# Altium footprint library PcbLib1.PcbLib: 9 footprints
Each footprint in its own frame and in the unit in brackets; x right, y up, seen from the top. Pads: shape width x height; smd on the part's side, far side on the other; paste and mask are expansions set on the pad; w line width, h text height; cw(c..) or ccw(c..) is an arc to the next point about the centre after c.
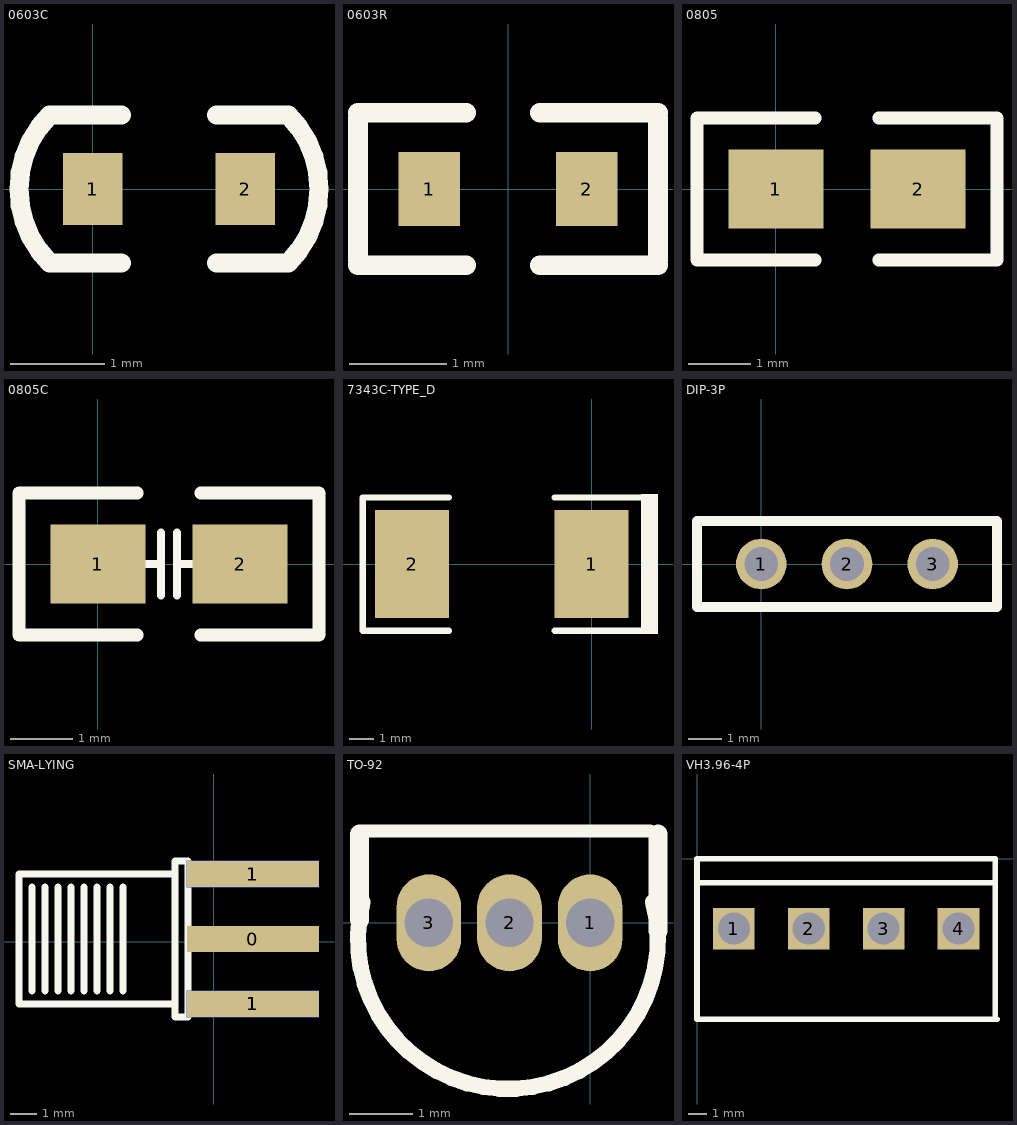
[diagram p0: the footprints below, top view; thin cyan lines are the x and y axes]

## 0603C [mil]
pads (2):
  rect 25x30 smd: 1(0,0) 2(64,0)
Top Overlay:
  lines w8: 12,-31 -18,-31 cw(c13,0) -18,31 12,31 ; 52,-31 82,-31 ccw(c51,0) 82,31 52,31

## 0603R [mil]
pads (2):
  rect 25x30 smd: 1(-32,0) 2(32,0)
Top Overlay:
  lines w8: -61,-31 -17,-31 ; -61,-29 -61,29 ; -61,31 -17,31 ; 13,-31 61,-31 ; 13,31 61,31 ; 61,-29 61,29

## 0805 [mil]
pads (2):
  rect 60x50 smd: 1(0,0) 2(90,0)
Top Overlay:
  lines w8: 25,-45 -50,-45 -50,45 25,45 ; 65,-45 140,-45 140,45 65,45

## 0805C [mil]
pads (2):
  rect 60x50 smd: 1(0,0) 2(90,0)
Top Overlay:
  lines w5: 30,0 40,0 ; 40,-20 40,20 ; 50,-20 50,20 ; 50,0 60,0
  lines w8: 25,-45 -50,-45 -50,45 25,45 ; 65,-45 140,-45 140,45 65,45

## 7343C-TYPE_D [mm]
pads (2):
  rect 3x4.4 smd: 1(0,0) 2(-7.3,0)
Top Overlay:
  rectangle: 2.008,-2.835 2.7,2.845
  lines w0.254: -5.8,-2.708 -9.308,-2.708 -9.308,2.708 -5.8,2.708 ; -1.5,-2.708 2.008,-2.708 ; -1.5,2.708 2.008,2.708

## DIP-3P [mm]
pads (3):
  round 1.5 hole 1: 1(0,0) 2(2.54,0) 3(5.08,0)
Top Overlay:
  lines w0.3: -1.905,-1.27 6.985,-1.27 6.985,1.27 -1.905,1.27 -1.905,0 -1.905,-1.27

## SMA-LYING [mm]
height 8.2
pads (5):
  rect 5.08x1.016 smd: 0(1.5,0.1) 1(1.5,-2.4) 1(1.5,2.6)
  rect 5.08x1.016 smd far side: 1(1.5,-2.4) 1(1.5,2.6)
Top Overlay:
  lines w0.254: -7,-1.9 -7,2.1 ; -6.5,-1.9 -6.5,2.1 ; -6,-1.9 -6,2.1 ; -5.5,-1.9 -5.5,2.1 ; -5,-1.9 -5,2.1 ; -4.5,-1.9 -4.5,2.1 ; -4,-1.9 -4,-1.4 -4,2.1 ; -3.5,-1.9 -3.5,2.1 ; -1.5,-2.4 -7.5,-2.4 -7.5,2.6 -1.5,2.6 ; -1.5,-2.9 -1,-2.9 -1,-2.4 -1,3.1 -1.5,3.1 -1.5,-2.9

## TO-92 [mil]
pads (3):
  oval 40x60 hole 30: 1(0,0) 2(-50,0) 3(-100,0)
Top Overlay:
  lines w8: -143,57 37,57
  lines w10: -141,13 ccw(c-51,-10) 39,13
  lines w12: -143,2 -143,55 ; 42,-5 42,55

## VH3.96-4P [mm]
pads (4):
  rect 2.2x2.2 hole 1.7: 1(1.95,-3.7) 2(5.91,-3.7) 3(9.87,-3.7) 4(13.83,-3.7)
Top Overlay:
  lines w0.3: 0,-1.27 15.78,-1.27 ; 15.78,-8.414 15.78,0 0,0 0,-8.5 15.866,-8.5